# Altium schematic symbol library SCH - PASSIVES - CAPACITOR - 10TPE47MAZB.SchLib: 1 symbol
Pins are listed as number, name and electrical type; pins without a type are passive.

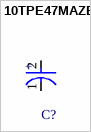
[diagram p0: symbol 10TPE47MAZB]

## 10TPE47MAZB
designator C?  (value not drawn)
pins: 1 C, 2 A
text: +